# Altium footprint library alientek_sch_lib.PcbLib: 370 footprints (part 12 of 24)
Each footprint in its own frame and in the unit in brackets; x right, y up, seen from the top. Pads: shape width x height; smd on the part's side, far side on the other; paste and mask are expansions set on the pad; w line width, h text height; cw(c..) or ccw(c..) is an arc to the next point about the centre after c.
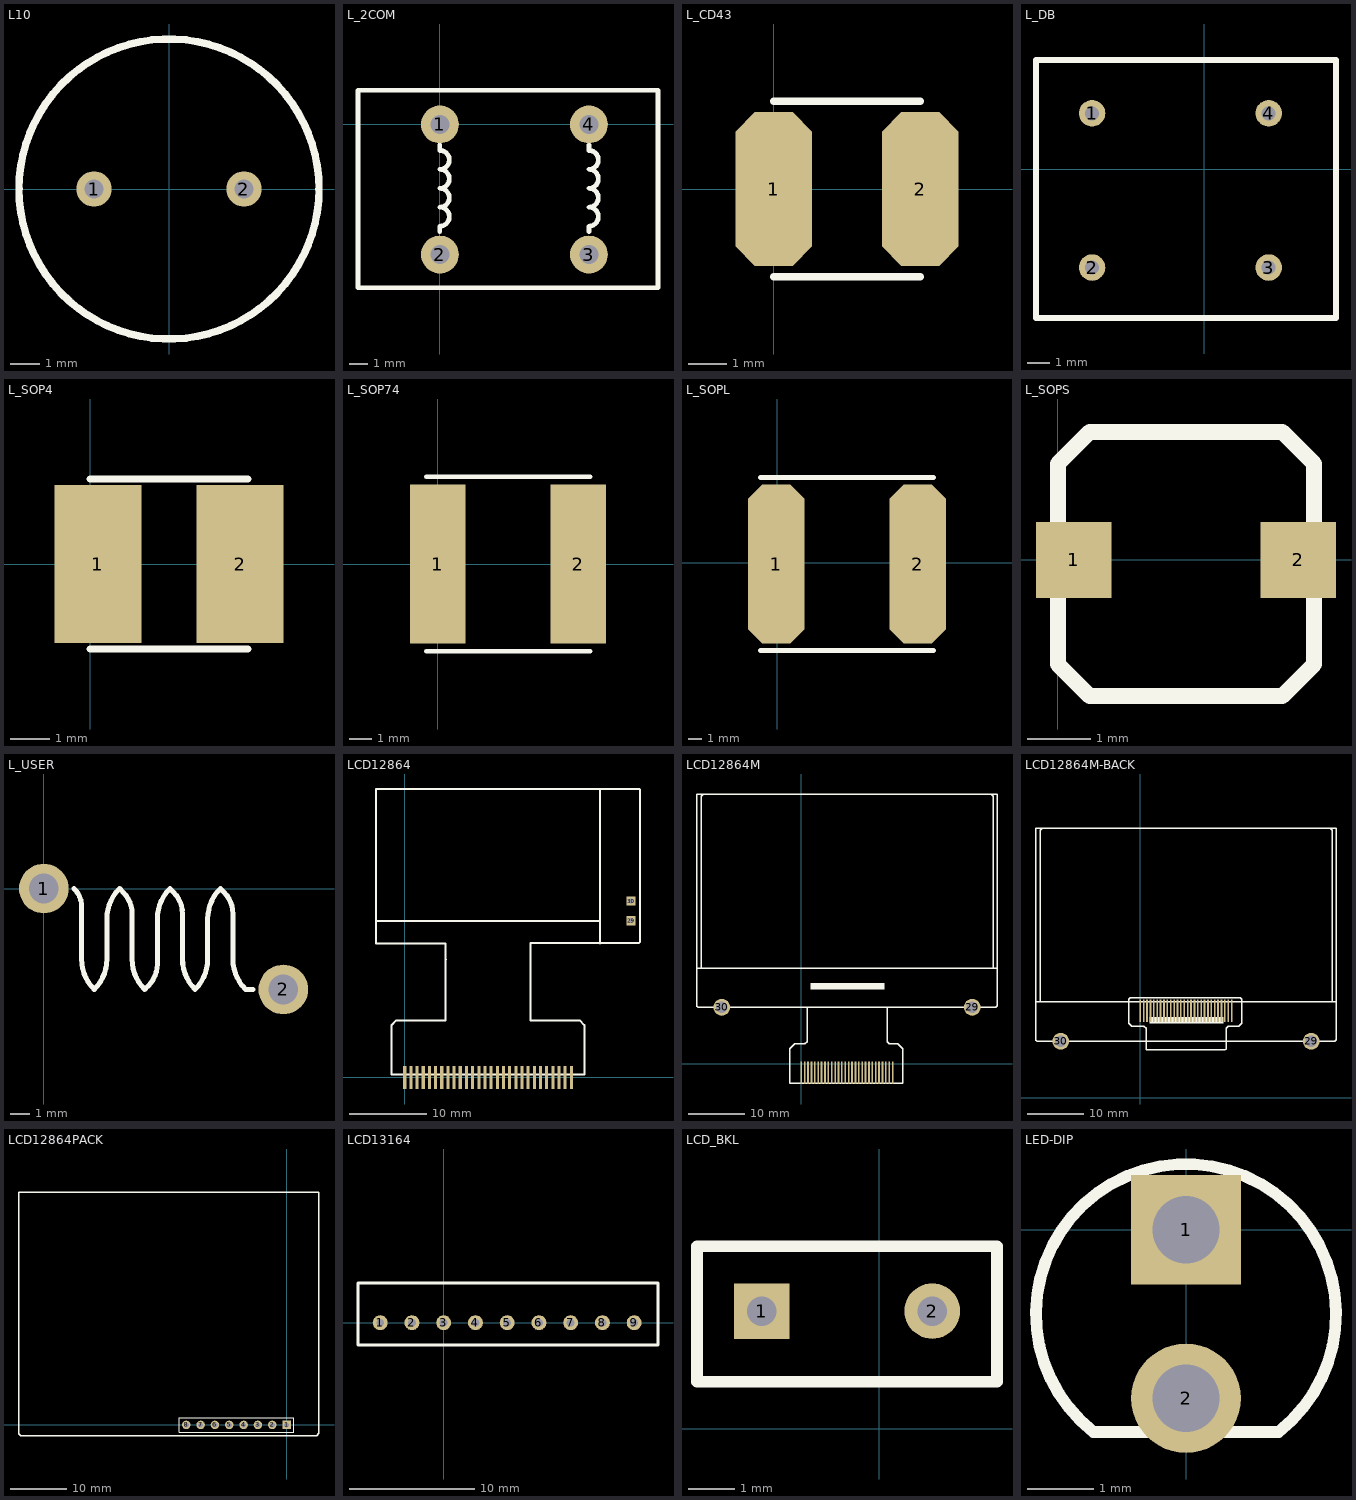
[diagram p11: the footprints below, top view; thin cyan lines are the x and y axes]

## L10 [mm] "10mH"
height 15
pads (2):
  round 1.2 hole 0.635: 1(-2.54,0) 2(2.54,0)
Top Overlay:
  circle w0.254: c0,0 r5.08

## L_2COM [mil] "common L;PIN:8*7;SIZE:16*10"
height 472.44
pads (4):
  round 80 hole 40: 1(0,0) 2(0,-275) 3(315,-275) 4(315,0)
Top Overlay:
  lines w10: -173,71 -173,-345 461,-345 461,71 ; -173,72 461,72 ; 0,-227 0,-215 ccw(c0,-195) 0,-175 ccw(c0,-155) 0,-135 ccw(c0,-115) 0,-95 ccw(c0,-75) 0,-55 0,-43 ; 315,-227 315,-215 ccw(c315,-195) 315,-175 ccw(c315,-155) 315,-135 ccw(c315,-115) 315,-95 ccw(c315,-75) 315,-55 315,-43

## L_CD43 [mm] "4mm*4mm"
height 3
pads (2):
  oct 2x4 smd: 1(0,0) 2(3.81,0)
Top Overlay:
  lines w0.203: 0,-2.286 3.81,-2.286 ; 0,2.286 3.81,2.286

## L_DB [mm] "DBL45mH"
height 12
pads (4):
  round 1.2 hole 0.635: 1(-5.08,2.54) 2(-5.08,-4.445) 3(2.921,-4.445) 4(2.921,2.54)
Top Overlay:
  lines w0.254: -7.62,-6.731 5.969,-6.731 5.969,4.953 -7.62,4.953 -7.62,-6.731

## L_SOP4 [mm] "4mm*4mm*1.7mm"
height 1.7
pads (2):
  rect 2.2x4 smd: 1(0.2,0) 2(3.8,0)
Top Overlay:
  lines w0.178: 0,-2.15 4,-2.15 ; 0,2.15 4,2.15

## L_SOP74 [mm] "7.4*7.4"
height 4.2
pads (2):
  rect 2.5x7.2 smd: 1(0,0) 2(6.35,0)
Top Overlay:
  lines w0.203: -0.508,-3.937 6.892,-3.937 ; -0.508,3.937 6.892,3.937

## L_SOPL [mil] "L_LARGE"
height 236.22
pads (2):
  oct 160x450 smd: 1(-3,-3) 2(397,-3)
Top Overlay:
  lines w15: -48,-248 442,-248 ; -48,242 442,242

## L_SOPS [mm] "L_4*4"
height 2
pads (2):
  rect 1.2x1.2 smd: 1(0.254,0) 2(3.81,0)
Top Overlay:
  lines w0.254: 1.016,2.032 3.556,2.032 4.064,1.524 4.064,-1.651 3.556,-2.159 0.508,-2.159 0,-1.651 0,1.524 0.508,2.032 1.143,2.032

## L_USER [mm] "SELF_DEF"
height 10
pads (2):
  round 2.5 hole 1.5: 1(0,0) 2(12.065,-5.08)
Top Overlay:
  lines w0.254: 1.524,0 cw(c0.604,-0.92) 1.905,-0.92 1.905,-3.547 ccw(c4.073,-3.547) 2.54,-5.08 ccw(c1.007,-3.547) 3.175,-3.547 3.175,-1.533 cw(c5.343,-1.533) 3.81,0 3.996,-0.186 cw(c2.912,-1.27) 4.445,-1.27 4.445,-3.547 ccw(c6.613,-3.547) 5.08,-5.08 5.266,-4.894 ccw(c4.182,-3.81) 5.715,-3.81 5.715,-1.533 cw(c7.883,-1.533) 6.35,0 6.536,-0.186 cw(c5.452,-1.27) 6.985,-1.27 6.985,-3.547 ccw(c9.153,-3.547) 7.62,-5.08 ccw(c6.087,-3.547) 8.255,-3.547 8.255,-1.533 cw(c10.423,-1.533) 8.89,0 9.076,-0.186 cw(c7.992,-1.27) 9.525,-1.27 9.525,-3.547 ccw(c11.693,-3.547) 10.16,-5.08 10.541,-5.08

## LCD12864 [mm] "SMALL SIZE"
height 2
pads (30):
  rect 0.4x3 smd: 1(0,0) 2(0.8,0) 3(1.6,0) 4(2.4,0) 5(3.2,0) 6(4,0) 7(4.8,0) 8(5.6,0) 9(6.4,0) 10(7.2,0) 11(8,0) 12(8.8,0) 13(9.6,0) 14(10.4,0) 15(11.2,0) 16(12,0) 17(12.8,0) 18(13.6,0) 19(14.4,0) 20(15.2,0) 21(16,0) 22(16.8,0) 23(17.6,0) 24(18.4,0) 25(19.2,0) 26(20,0) 27(20.8,0) 28(21.6,0)
  rect 1.2x1.2 on Top hole 0.635: 29(29.337,20.32) 30(29.337,22.86)
Top Overlay:
  lines w0.254: -3.7,20.269 25.315,20.269 ; 5.3,7.366 5.26,7.406 -0.127,7.406 -1.092,7.406 -1.7,6.799 -1.7,5.715 -1.7,0.406 22.1,0.406 23.292,0.406 23.3,0.415 23.3,1.092 23.3,6.789 22.682,7.406 17.856,7.406 ; 5.3,7.391 5.3,17.391 -3.7,17.391 -3.7,22.597 -3.7,37.383 -3.708,37.391 5.3,37.391 16.34,37.391 25.199,37.391 25.315,37.276 25.315,23.868 25.315,17.406 25.3,17.391 25.285,17.406 ; 5.3,15.231 5.334,15.265 ; 19.355,7.406 16.315,7.406 16.315,17.406 25.285,17.406 ; 25.019,37.391 30.427,37.391 30.48,37.338 30.48,17.541 30.346,17.406 25.285,17.406

## LCD12864M [mm] "MID SIZE"
height 2
pads (30):
  rect 0.3x4 smd: 1(16.2,-1.524) 2(15.6,-1.524) 3(15,-1.524) 4(14.4,-1.524) 5(13.8,-1.524) 6(13.2,-1.524) 7(12.6,-1.524) 8(12,-1.524) 9(11.4,-1.524) 10(10.8,-1.524) 11(10.2,-1.524) 12(9.6,-1.524) 13(9,-1.524) 14(8.4,-1.524) 15(7.8,-1.524) 16(7.2,-1.524) 17(6.6,-1.524) 18(6,-1.524) 19(5.4,-1.524) 20(4.8,-1.524) 21(4.2,-1.524) 22(3.6,-1.524) 23(3,-1.524) 24(2.4,-1.524) 25(1.8,-1.524) 26(1.2,-1.524) 27(0.6,-1.524) 28(0,-1.524)
  round 3 hole 2: 29(30.309,10.051) 30(-14.091,10.051)
Top Overlay:
  rectangle: 1.651,13.208 14.732,14.351
  lines w0.254: -18.491,17.018 34.709,17.018 ; -17.78,17.018 -17.78,47.47 -17.399,47.851 ; 1.016,10.051 1.016,3.937 0.635,3.556 -1.143,3.556 -2.032,2.667 -2.032,-3.429 17.968,-3.429 17.968,2.733 ; 16.891,3.556 15.621,3.556 ; 33.655,47.851 34.036,47.47 34.036,17.018 ; 15.24,3.937 15.621,3.556 ; 15.24,3.937 15.24,10.051 15.24,3.937 ; 15.621,3.556 17.145,3.556 ; 17.145,3.556 17.968,2.733 ; 17.145,3.556 17.968,2.733 ; -18.491,10.254 -18.491,47.851 34.709,47.851 34.709,10.287 34.473,10.051 34.29,10.051 -18.288,10.051 -18.491,10.254

## LCD12864M-BACK [mm] "MID SIZE BACK CN"
height 2
pads (30):
  rect 0.3x4 smd: 1(16.2,15.494) 2(15.6,15.494) 3(15,15.494) 4(14.4,15.494) 5(13.8,15.494) 6(13.2,15.494) 7(12.6,15.494) 8(12,15.494) 9(11.4,15.494) 10(10.8,15.494) 11(10.2,15.494) 12(9.6,15.494) 13(9,15.494) 14(8.4,15.494) 15(7.8,15.494) 16(7.2,15.494) 17(6.6,15.494) 18(6,15.494) 19(5.4,15.494) 20(4.8,15.494) 21(4.2,15.494) 22(3.6,15.494) 23(3,15.494) 24(2.4,15.494) 25(1.8,15.494) 26(1.2,15.494) 27(0.6,15.494) 28(0,15.494)
  round 3 hole 2: 29(30.309,10.051) 30(-14.091,10.051)
Top Overlay:
  rectangle: 1.651,13.208 14.732,14.351
  lines w0.254: -18.491,17.018 34.709,17.018 ; -17.78,17.018 -17.78,47.47 -17.399,47.851 ; -2.032,16.764 -2.032,17.526 -1.778,17.78 -1.524,17.78 17.714,17.78 17.968,17.526 17.968,16.764 ; -2.032,17.399 -2.032,13.208 -1.524,12.7 0.127,12.7 0.635,12.7 1.016,12.319 1.016,10.051 ; 1.016,10.414 1.016,8.509 15.113,8.509 15.24,8.636 15.24,10.414 ; 15.24,10.051 15.24,12.319 15.621,12.7 17.46,12.7 17.968,13.208 17.968,17.272 ; 33.655,47.851 34.036,47.47 34.036,17.018 ; -18.491,10.254 -18.288,10.051 34.29,10.051 34.473,10.051 34.709,10.287 34.709,47.851 -18.491,47.851 -18.491,10.254

## LCD12864PACK [mm] "LCD12864"
pads (8):
  rect 1.5x1.5 hole 0.9: 1(0,0)
  round 1.5 hole 0.9: 2(-2.54,0) 3(-5.08,0) 4(-7.62,0) 5(-10.16,0) 6(-12.7,0) 7(-15.24,0) 8(-17.78,0)
Top Overlay:
  lines w0.2: -19.05,-1.27 1.27,-1.27 1.27,1.27 -19.05,1.27 -19.05,-1.27
  lines w0.254: -47.447,3.65 -47.447,41.247 5.753,41.247 ; -47.447,5.08 -47.447,-1.575 -47.117,-1.905 5.334,-1.905 5.753,-1.486 5.753,41.247 ; 5.753,3.683 5.753,41.247

## LCD13164 [mm] "LCD13164"
height 10
pads (9):
  round 1.2 hole 0.635: 1(-5.08,0) 2(-2.54,0) 3(0,0) 4(2.54,0) 5(5.08,0) 6(7.62,0) 7(10.16,0) 8(12.7,0) 9(15.24,0)
Top Overlay:
  lines w0.254: -2.794,-1.778 16.891,-1.778 ; -2.54,-1.778 -6.858,-1.778 -6.858,3.175 17.145,3.175 17.145,-1.524 17.145,-1.778 16.637,-1.778

## LCD_BKL [mm] "LCD_BACK_LIGHT"
height 4
pads (2):
  rect 1.2x1.2 hole 0.635: 1(-2.54,2.54)
  round 1.2 hole 0.635: 2(1.143,2.54)
Top Overlay:
  lines w0.254: -3.937,2.667 -3.937,3.937 2.54,3.937 2.54,1.016 -3.937,1.016 -3.937,3.81

## LED-DIP [mil] "PIN:2.54MM;H:5MM;"
height 196.85
pads (2):
  rect 65x65 hole 40: 1(0,0)
  round 65 hole 40: 2(0,-100)
Top Overlay:
  lines w7: -55,-120 cw(c0,-50) 55,-120 -55,-120